# Altium schematic symbol library HFCG-3000+.SchLib: 1 symbol
Pins are listed as number, name and electrical type; pins without a type are passive.

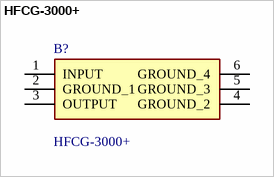
[diagram p0: symbol HFCG-3000+]

## HFCG-3000+
designator B?
Signal Conditioning LTCC High Pass Filter, 3400 - 13000 MHz; Manufacturer_Name: Mini-Circuits; Geometry.Height: 1.1684mm; Mouser Part Number: 139-HFCG-3000+; Mouser Price/Stock: https://www.mouser.co.uk/ProductDetail/Mini-Circuits/HFCG-3000%2b?qs=Znm5pLBrcAK7iw0r11flSw%3D%3D; Manufacturer_Part_Number: HFCG-3000+; Datasheet Link: https://www.minicircuits.com/WebStore/dashboardPdf?model=HFCG-3000%2B
footprint HFCG3000
pins: 1 INPUT, 2 GROUND_1, 3 OUTPUT, 4 GROUND_2, 5 GROUND_3, 6 GROUND_4